# Altium schematic symbol library BM04B-GHS-TBTLFSN.SchLib: 1 symbol
Pins are listed as number, name and electrical type; pins without a type are passive.

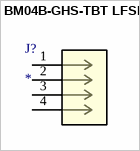
[diagram p0: symbol BM04B-GHS-TBT LFSN]

## BM04B-GHS-TBT LFSN
designator J?
No Description Available; Mfr_Name: JST; RefDes: RefDes; Type: Type
footprint CONN_BM04B-GHS-TBT_JST
pins: 1, 2, 3, 4